# EAGLE library part F09HPS_MALE (library Stecker_Pins)
D-Sub 9 pol für PCB, Male
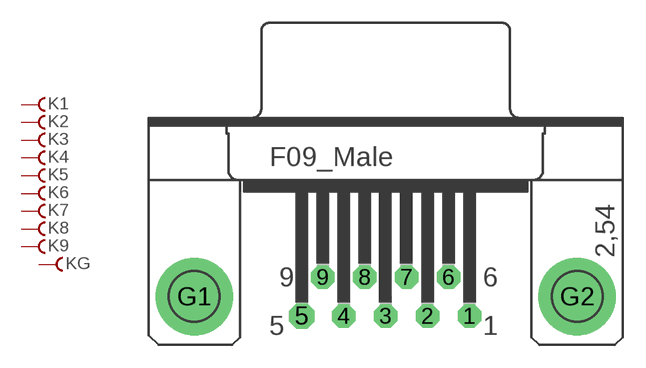
[diagram p16: symbol with the pads of F09HP_MALE; footprint F09HP_MALE]

Designator prefix K; gates 1=F 2=F 3=F 4=F 5=F 6=F 7=F 8=F 9=F G=F

## F09HPS_MALE  [F09HP_MALE]
1  1:F  pas
2  2:F  pas
3  3:F  pas
4  4:F  pas
5  5:F  pas
6  6:F  pas
7  7:F  pas
8  8:F  pas
9  9:F  pas
G1  G:F  pas

## Footprint F09HP_MALE (pad centres in mm)
drill 1.016 octagon: 1 5.486,-6.35; 2 2.743,-6.35; 3 0,-6.35; 4 -2.743,-6.35; 6 4.115,-3.81; 7 1.372,-3.81; 8 -1.372,-3.81; 9 -4.115,-3.81
drill 1.016 pad 1.676 octagon: 5 -5.486,-6.35
drill 3.302 pad 5.08: G1 -12.522,-5.08; G2 12.522,-5.08